# Altium schematic symbol library 2450AT14A0100T.SchLib: 1 symbol
Pins are listed as number, name and electrical type; pins without a type are passive.

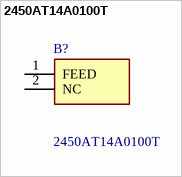
[diagram p0: symbol 2450AT14A0100T]

## 2450AT14A0100T
designator B?
Antennas SMALL AREA 2.4G ANT; Manufacturer_Name: JOHANSON TECHNOLOGY; Geometry.Height: 0.4mm; Mouser Part Number: 609-2450AT14A0100T; Mouser Price/Stock: https://www.mouser.co.uk/ProductDetail/Johanson-Technology/2450AT14A0100T?qs=YCa%2FAAYMW01CU618jkZ%252BCw%3D%3D; Manufacturer_Part_Number: 2450AT14A0100T; Datasheet Link: https://www.johansontechnology.com/datasheets/2450AT14A0100/2450AT14A0100.pdf
footprint ANTC1608X40N
pins: 1 FEED, 2 NC